# Altium footprint library WL-SBCW.PcbLib: 2 footprints
Each footprint in its own frame and in the unit in brackets; x right, y up, seen from the top. Pads: shape width x height; smd on the part's side, far side on the other; paste and mask are expansions set on the pad; w line width, h text height; cw(c..) or ccw(c..) is an arc to the next point about the centre after c.
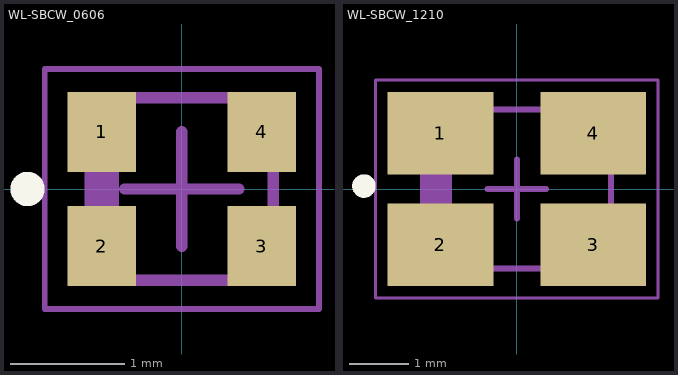
[diagram p0: the footprints below, top view; thin cyan lines are the x and y axes]

## WL-SBCW_0606 [mm] "SMD Bi-color Chip LED Waterclear, body 1.6x1.6mm"
height 0.7
pads (4):
  rect 0.6x0.7 smd: 1(-0.7,0.5) 2(-0.7,-0.5) 3(0.7,-0.5) 4(0.7,0.5)
Top Overlay:
  circle w0.15: c-1.35,0 r0.075
Top Assembly:
  rectangle: -0.8,-0.8 -0.55,0.8
  lines w0.1: -0.8,-0.8 -0.8,0.8 0.8,0.8 0.8,-0.8 -0.8,-0.8
Top Designator:
  text ".Designator" at -3.647,-0.357 h1
Top Courtyard:
  lines w0.05: -1.2,-1.05 1.2,-1.05 1.2,1.05 -1.2,1.05 -1.2,-1.05
Top Component Center:
  lines w0.1: -0.5,0 0.5,0 ; 0,-0.5 0,0.5
3D body "WL-SBCW_0606.stp": height 0.7, standoff 0, extent -0.8,-0.8 0.8,0.8

## WL-SBCW_1210 [mm] "SMD Bi-color Chip LED Waterclear, body 3.2x2.7mm"
height 0.7
pads (4):
  rect 1.8x1.4 smd: 1(-1.3,0.95) 2(-1.3,-0.95) 3(1.3,-0.95) 4(1.3,0.95)
Top Overlay:
  circle w0.2: c-2.6,0.05 r0.1
Top Assembly:
  rectangle: -1.6,-1.35 -1.1,1.35
  lines w0.1: -1.6,-1.35 1.6,-1.35 1.6,1.35 -1.6,1.35 -1.6,-1.35
Top Designator:
  text ".Designator" at -3.647,-0.357 h1
Top Courtyard:
  lines w0.05: -2.4,-1.85 2.4,-1.85 2.4,1.85 -2.4,1.85 -2.4,-1.85
Top Component Center:
  lines w0.1: -0.5,0 0.5,0 ; 0,-0.5 0,0.5
3D body "WL-SBCW_1210.stp": height 0.7, standoff 0, extent -1.6,-1.35 1.6,1.35